# Altium schematic symbol library SS Relay.Schlib: 1 symbol
Pins are listed as number, name and electrical type; pins without a type are passive.

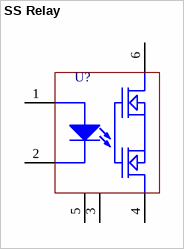
[diagram p0: symbol SS Relay]

## SS Relay
designator U?
signal-integrity model Model Name (Model Description)
pins: 1 0, 2 1, 3, 4 G, 5, 6 S
1 alternate drawing of the same symbol